# Altium footprint library d203.PcbLib: 102 footprints (part 5 of 7)
Each footprint in its own frame and in the unit in brackets; x right, y up, seen from the top. Pads: shape width x height; smd on the part's side, far side on the other; paste and mask are expansions set on the pad; w line width, h text height; cw(c..) or ccw(c..) is an arc to the next point about the centre after c.
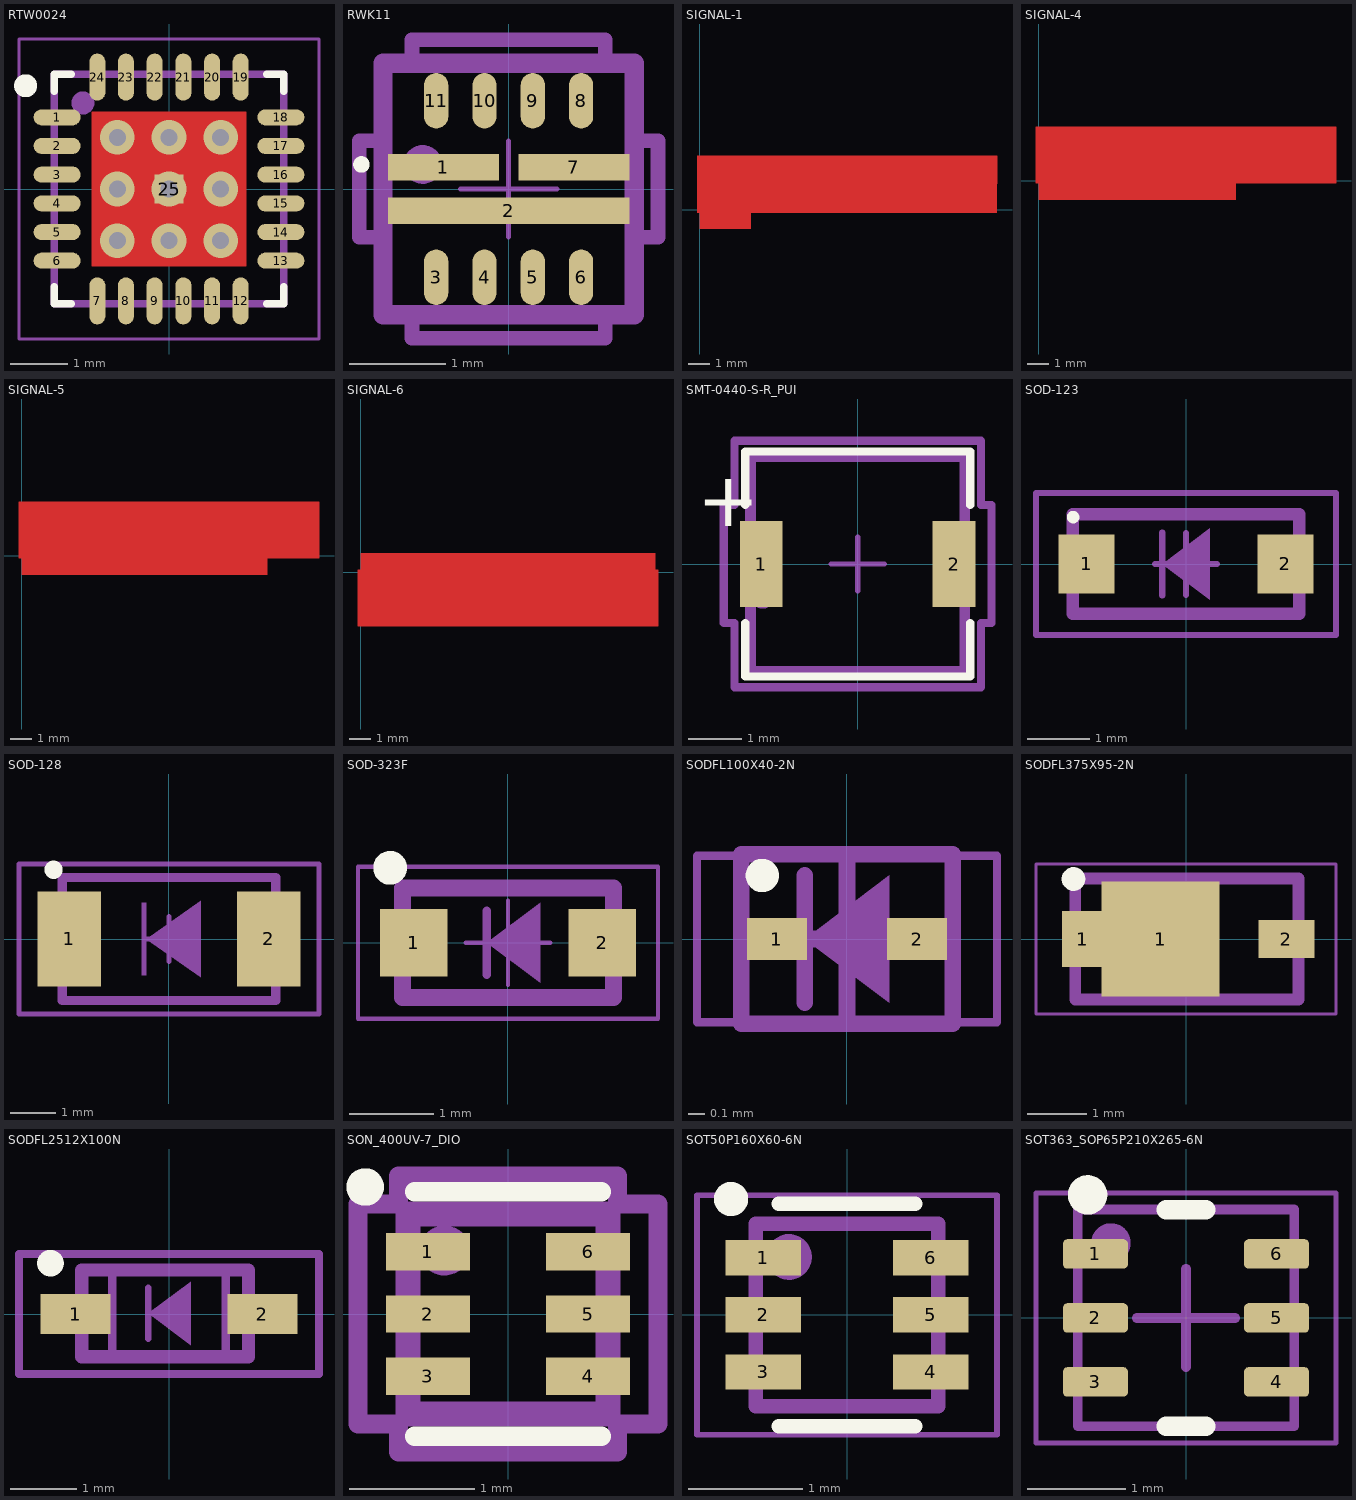
[diagram p4: the footprints below, top view; thin cyan lines are the x and y axes]

## RTW0024 [mm]
pads (25):
  rrect100% 0.82x0.28 smd paste-0.025 mask+0.05: 1(-1.95,1.25) 2(-1.95,0.75) 3(-1.95,0.25) 4(-1.95,-0.25) 5(-1.95,-0.75) 6(-1.95,-1.25) 13(1.95,-1.25) 14(1.95,-0.75) 15(1.95,-0.25) 16(1.95,0.25) 17(1.95,0.75) 18(1.95,1.25)
  rrect100% 0.28x0.82 smd paste-0.025 mask+0.05: 7(-1.25,-1.95) 8(-0.75,-1.95) 9(-0.25,-1.95) 10(0.25,-1.95) 11(0.75,-1.95) 12(1.25,-1.95) 19(1.25,1.95) 20(0.75,1.95) 21(0.25,1.95) 22(-0.25,1.95) 23(-0.75,1.95) 24(-1.25,1.95)
  rect 0.5x0.5 smd paste-5 mask+0.05: 25(0,0)
via 0.9,-0.9 diameter 0.605 hole 0.3
via 0,-0.9 diameter 0.605 hole 0.3
via -0.9,-0.9 diameter 0.605 hole 0.3
via -0.9,0.9 diameter 0.605 hole 0.3
via 0,0.9 diameter 0.605 hole 0.3
via 0.9,0.9 diameter 0.605 hole 0.3
via 0.9,0 diameter 0.605 hole 0.3
via -0.9,0 diameter 0.605 hole 0.3
via 0,0 diameter 0.605 hole 0.3
Top Layer:
  rectangle: -1.35,-1.35 1.35,1.35
Top Overlay:
  circle w0.2: c-2.5,1.8 r0.1
  lines w0.127: -2,-1.705 -2,-2 -1.705,-2 ; -2,1.705 -2,2 -1.705,2 ; 1.705,-2 2,-2 2,-1.705 ; 1.705,2 2,2 2,1.705
Top Paste:
  rectangle: -1.25,0.15 -0.15,1.25
  region: -0.15,-1.25 -0.15,-0.15 -1.25,-0.15 -1.25,-1.25
  region: 1.25,-0.15 0.15,-0.15 0.15,-1.25 1.25,-1.25
  region: 0.15,1.25 0.15,0.15 1.25,0.15 1.25,1.25
Top Solder:
  rectangle: -1.4,-1.4 1.4,1.4
Mechanical 14:
  circle w0.2: c-1.5,1.5 r0.1
  lines w0.127: -2,-2 2,-2 ; -2,-2 -2,2 ; -2,-2 2,-2 ; -2,-2 -2,2 ; -2,2 2,2 ; -2,2 2,2 ; 2,-2 2,2 ; 2,-2 2,2
  text "'.Designator'" at -0.9,-0.2 h0.5
Mechanical 15:
  lines w0.05: -2.615,-2.615 2.615,-2.615 2.615,2.615 -2.615,2.615 -2.615,-2.615
  lines w0.1: -0.5,0 0.5,0 ; 0,-0.5 0,0.5
3D body "BQ25611DRTWT.STEP": height 0.8, standoff 0, extent -2,-2 2,2

## RWK11 [mm]
pads (11):
  rect 1.15x0.275 smd paste-1 mask-0.038: 1(-0.675,0.225) 7(0.675,0.225)
  rect 2.5x0.275 smd paste-1 mask-0.038: 2(0,-0.225)
  rrect100% 0.25x0.575 smd paste+0 mask+0.05: 3(-0.75,-0.913) 4(-0.25,-0.913) 5(0.25,-0.913) 6(0.75,-0.913) 8(0.75,0.913) 9(0.25,0.913) 10(-0.25,0.913) 11(-0.75,0.913)
Top Overlay:
  circle w0.1: c-1.524,0.254 r0.035
Top Paste:
  rectangle: 0.551,-0.325 1.199,-0.125
  rectangle: -0.322,-0.325 0.326,-0.125
  rectangle: -1.195,-0.325 -0.547,-0.125
  rectangle: 0.137,0.125 0.562,0.325
  rectangle: 0.787,0.125 1.212,0.325
  rectangle: -0.563,0.125 -0.138,0.325
  rectangle: -1.213,0.125 -0.788,0.325
Mechanical 14:
  circle w0.2: c-0.889,0.254 r0.1
  lines w0.2: -1.3,-1.3 -1.3,1.3 1.3,1.3 1.3,-1.3 -1.3,-1.3
  text ".Designator" at 0.889,0.127 h0.5
Mechanical 15:
  lines w0.05: -0.5,0 0.5,0 ; 0,-0.5 0,0.5
  lines w0.152: -1.546,-0.5 -1.546,0.5 -1.308,0.5 -1.308,1.308 -1,1.308 -1,1.546 1,1.546 1,1.308 1.308,1.308 1.308,0.5 1.546,0.5 1.546,-0.5 1.308,-0.5 1.308,-1.308 1,-1.308 1,-1.546 -1,-1.546 -1,-1.308 -1.308,-1.308 -1.308,-0.5 -1.546,-0.5
3D body "RWK11.step": height 0.99, standoff 0, extent -1.206,-1.054 1.206,1.054

## SIGNAL-1 [mm]
Top Layer:
  rectangle: 0,0 0.125,2.375
  region: 2.375,2.25 2.375,2.375 0,2.375 0,2.25
  region: 2.375,2.375 2.25,2.375 2.25,0 2.375,0
  region: 0,0.125 0,-0.889 2.375,-0.889 2.375,0.125
  rectangle: 2.25,0 2.375,2.375
  pour cut-out: -0.125,2.5 -0.125,-0.125 13.75,-0.125 13.75,2.5
  text "1" at 0.925,0.55 h2
Top Solder:
  rectangle: 0,0 2.375,2.375
Bottom Solder:
  rectangle: 0,0 2.375,2.375

## SIGNAL-4 [mm]
Top Layer:
  region: 6.875,2.375 6.75,2.375 6.75,0 6.875,0
  region: 0,0.125 0,-0.889 9.125,-0.889 9.125,0.125
  region: 9.125,2.375 9,2.375 9,0 9.125,0
  region: 9.125,2.25 9.125,2.375 6.75,2.375 6.75,2.25
  rectangle: 9,0 9.125,2.375
  pour cut-out: -0.125,2.5 -0.125,-0.125 13.75,-0.125 13.75,2.5
  text "4" at 7.493,0.55 h2
Top Solder:
  rectangle: 6.75,0 9.125,2.375
Bottom Solder:
  rectangle: 6.75,0 9.125,2.375

## SIGNAL-5 [mm]
Top Layer:
  rectangle: 11.25,0 11.375,2.375
  region: 11.375,2.25 11.375,2.375 9,2.375 9,2.25
  region: 11.375,2.375 11.25,2.375 11.25,0 11.375,0
  region: 0,0.125 0,-0.889 11.375,-0.889 11.375,0.125
  region: 9.125,2.375 9,2.375 9,0 9.125,0
  pour cut-out: -0.125,2.5 -0.125,-0.125 13.75,-0.125 13.75,2.5
  text "5" at 9.779,0.55 h2
Top Solder:
  rectangle: 9,0 11.375,2.375
Bottom Solder:
  rectangle: 9,0 11.375,2.375

## SIGNAL-6 [mm]
Top Layer:
  region: 13.625,-0.125 13.625,0.889 0,0.889 0,-0.125
  region: 13.625,0 13.5,0 13.5,-2.375 13.625,-2.375
  region: 11.25,-2.25 11.25,-2.375 13.625,-2.375 13.625,-2.25
  rectangle: 11.25,-2.375 11.375,0
  rectangle: 13.5,-2.375 13.625,0
  pour cut-out: -0.125,-2.5 -0.125,0.125 13.75,0.125 13.75,-2.5
  text "6" at 12.065,-0.55 h2
Top Solder:
  rectangle: 11.25,-2.375 13.625,0
Bottom Solder:
  rectangle: 11.25,-2.375 13.625,0

## SMT-0440-S-R_PUI [mm]
pads (2):
  rect 0.8x1.6 smd: 1(-1.8,0) 2(1.8,0)
Top Overlay:
  lines w0.152: -2.1,-1.1 -2.1,-2.1 2.1,-2.1 2.1,-1.1 ; -2.1,1.1 -2.1,2.1 2.1,2.1 2.1,1.1
  text "+" at -3,0.7 h1.02
Mechanical 14:
  circle w0.2: c-1.778,-0.635 r0.1
  lines w0.2: -2,-2 -2,2 2,2 2,-2 -2,-2
  text "+" at -2.8,-0.2 h0.5
  text "'.Designator'" at 0.127,-1.016 h0.5
Mechanical 15:
  lines w0.1: -0.5,0 0.5,0 ; 0,-0.5 0,0.5
  lines w0.152: -2.5,-1.1 -2.5,1.1 -2.3,1.1 -2.3,2.3 2.3,2.3 2.3,1.1 2.5,1.1 2.5,-1.1 2.3,-1.1 2.3,-2.3 -2.3,-2.3 -2.3,-1.1 -2.5,-1.1
3D body "_media_ThreeDModel_SMT-0440-S-R.stp": height 2, standoff 0, extent -2,-2 2,2

## SOD-123 [mm]
pads (2):
  rect 0.9x0.95 smd: 1(-1.6,0) 2(1.6,0)
Top Overlay:
  circle w0.1: c-1.816,0.754 r0.05
Mechanical 14:
  region: -0.381,0 0.381,0.571 0.381,-0.572
  lines w0.1: -0.381,-0.508 -0.381,0.508
  lines w0.2: -1.825,-0.8 1.825,-0.8 1.825,0.8 -1.825,0.8 -1.825,-0.8
  text "'.Designator'" at 1.27,1.651 h0.5
Mechanical 15:
  lines w0.1: -0.5,0 0.5,0 ; 0,-0.5 0,0.5 ; -2.413,-1.143 2.413,-1.143 2.413,1.143 -2.413,1.143 -2.413,-1.143
3D body "SOD-123.STEP": height 1.15, standoff 0, extent -1.825,-0.775 1.825,0.775

## SOD-128 [mm]
pads (2):
  rect 1.4x2.1 smd: 1(-2.2,0) 2(2.2,0)
Top Overlay:
  circle w0.2: c-2.54,1.524 r0.1
Mechanical 14:
  rectangle: -0.6,-0.8 -0.5,0.8
  region: -0.5,0 0.7,0.84 0.7,-0.84
  lines w0.2: -2.35,-1.35 -2.35,1.35 2.35,1.35 2.35,-1.35 -2.35,-1.35
  text "'.Designator'" at -2.794,1.651 h0.5
Mechanical 15:
  lines w0.1: -0.5,0 0.5,0 ; 0,-0.5 0,0.5 ; -3.302,-1.651 -3.302,1.651 3.302,1.651 3.302,-1.651 -3.302,-1.651
3D body "SOD-128.step": height 1, standoff 0, extent -2.35,-1.35 2.35,1.35

## SOD-323F [mm]
pads (2):
  rect 0.8x0.8 smd: 1(-1.115,0) 2(1.115,0)
Top Overlay:
  circle w0.2: c-1.397,0.889 r0.1
Mechanical 14:
  region: -0.254,0 0.381,0.476 0.381,-0.476
  lines w0.1: -0.254,-0.381 -0.254,0.381
  lines w0.2: -1.25,-0.65 -1.25,0.65 1.25,0.65 1.25,-0.65 -1.25,-0.65
  text "'.Designator'" at 1.778,-0.254 h0.5
Mechanical 15:
  lines w0.05: -0.5,0 0.5,0 ; 0,-0.5 0,0.5 ; -1.778,-0.9 1.778,-0.9 1.778,0.9 -1.778,0.9 -1.778,-0.9
3D body "SOD-323F.STEP": height 1, standoff 0, extent -1.25,-0.65 1.25,0.65

## SODFL100X40-2N [mm]
pads (2):
  rect 0.36x0.25 smd: 1(-0.42,0) 2(0.42,0)
Top Overlay:
  circle w0.1: c-0.508,0.381 r0.05
Mechanical 14:
  region: -0.254,0 0.254,0.381 0.254,-0.381
  lines w0.1: -0.254,-0.381 -0.254,0.381 ; -0.635,-0.508 -0.635,0.508 0.635,0.508 0.635,-0.508 -0.635,-0.508
  text "'.Designator'" at -0.762,0.254 h0.5
Mechanical 15:
  lines w0.05: -0.9,-0.5 -0.9,0.5 0.9,0.5 0.9,-0.5 -0.9,-0.5
  lines w0.1: -0.5,0 0.5,0 ; 0,-0.5 0,0.5
3D body "SODFL100X40-2N.step": height 0.4, standoff 0, extent -0.5,-0.325 0.5,0.325

## SODFL375X95-2N [mm]
pads (3):
  rect 0.7x0.95 smd: 1(-1.75,0)
  rect 2x1.95 smd: 1(-0.432,0)
  rect 0.95x0.65 smd: 2(1.7,0)
Top Overlay:
  circle w0.2: c-1.905,1.016 r0.1
Mechanical 14:
  region: -0.381,0 0.381,0.571 0.381,-0.572
  lines w0.1: -0.381,-0.508 -0.381,0.508
  lines w0.2: -1.875,-1.025 -1.875,1.025 1.905,1.025 1.905,-1.025 -1.875,-1.025
  text "'.Designator'" at 1.473,-1.524 h0.5
Mechanical 15:
  lines w0.05: -2.54,-1.27 -2.54,1.27 2.54,1.27 2.54,-1.27 -2.54,-1.27
  lines w0.1: -0.5,0 0.5,0 ; 0,-0.5 0,0.5
3D body "SODFL375X95-2N.step": height 0.95, standoff 0, extent -1.875,-1.025 1.875,1.025

## SODFL2512X100N [mm]
pads (2):
  rect 1.05x0.6 smd: 1(-1.4,0) 2(1.4,0)
Top Overlay:
  circle w0.2: c-1.778,0.762 r0.1
Mechanical 13:
  lines w0.127: -0.85,-0.625 -0.85,0.625 ; 0.85,-0.625 0.85,0.625
Mechanical 14:
  region: -0.311,0.01 0.324,0.487 0.324,-0.466
  lines w0.1: -0.311,-0.371 -0.311,0.391
  lines w0.2: -1.307,-0.64 1.193,-0.64 1.193,0.66 -1.307,0.66 -1.307,-0.64
Mechanical 15:
  lines w0.127: -2.25,-0.9 -2.25,0.9 2.25,0.9 2.25,-0.9 -2.25,-0.9
3D body "step_temp.STEP": height 0.7, standoff -0.2, extent -1.25,-0.625 1.25,0.625

## SON_400UV-7_DIO [mm]
pads (6):
  rect 0.67x0.3 smd: 1(-0.64,0.5) 2(-0.64,0) 3(-0.64,-0.5) 4(0.64,-0.5) 5(0.64,0) 6(0.64,0.5)
Top Overlay:
  circle w0.2: c-1.143,1.016 r0.05
  lines w0.152: -0.749,-0.978 0.749,-0.978 ; -0.749,0.978 0.749,0.978
Mechanical 14:
  circle w0.2: c-0.508,0.508 r0.1
  lines w0.2: -0.8,-0.8 0.8,-0.8 0.8,0.8 -0.8,0.8 -0.8,-0.8
  text "'.Designator'" at -0.762,-0.254 h0.5
Mechanical 15:
  lines w0.152: -1.2,-0.881 -0.876,-0.881 -0.876,-1.105 0.876,-1.105 0.876,-0.881 1.2,-0.881 1.2,0.881 0.876,0.881 0.876,1.105 -0.876,1.105 -0.876,0.881 -1.2,0.881 -1.2,-0.881
3D body "EMT6.step": height 0.5, standoff -0.01, extent -0.8,-0.8 0.8,0.8

## SOT50P160X60-6N [mm]
pads (6):
  rect 0.66x0.31 smd: 1(-0.735,0.5) 2(-0.735,0) 3(-0.735,-0.5) 4(0.735,-0.5) 5(0.735,0) 6(0.735,0.5)
Top Overlay:
  circle w0.2: c-1.016,1.016 r0.05
  lines w0.127: -0.6,-0.975 0.6,-0.975 ; -0.6,0.975 0.6,0.975
Mechanical 14:
  circle w0.2: c-0.508,0.508 r0.1
  lines w0.127: -0.8,-0.8 -0.8,0.8 0.8,0.8 0.8,-0.8 -0.8,-0.8
  text "'.Designator'" at -0.635,-0.254 h0.5
Mechanical 15:
  lines w0.05: -1.315,-1.05 -1.315,1.05 1.315,1.05 1.315,-1.05 -1.315,-1.05
3D body "DRL0006A.stp": height 0.6, standoff 0, extent -0.8,-0.8 0.8,0.8

## SOT363_SOP65P210X265-6N [mm]
pads (6):
  rrect30% 0.66x0.3 smd mask+0.05: 1(-0.92,0.65) 2(-0.92,0) 3(-0.92,-0.65) 4(0.92,-0.65) 5(0.92,0) 6(0.92,0.65)
Top Overlay:
  circle w0.2: c-1,1.25 r0.1
  lines w0.2: -0.2,-1.1 0.2,-1.1 ; -0.2,1.1 0.2,1.1
Mechanical 14:
  circle w0.2: c-0.762,0.762 r0.1
  lines w0.1: -1.1,-1.1 1.1,-1.1 1.1,1.1 -1.1,1.1 -1.1,-1.1
  text "'.Designator'" at -0.254,0.762 h0.5
Mechanical 15:
  lines w0.05: -1.524,-1.27 1.524,-1.27 1.524,1.27 -1.524,1.27 -1.524,-1.27
  lines w0.1: -0.5,0 0.5,0 ; 0,-0.5 0,0.5
3D body "SOT-363.STEP": height 1.1, standoff 0, extent -1.1,-1.1 1.1,1.1